# EAGLE library part DIP-BLACK-FEMALE-HEADER-VERT(2X15P-2.54) (library Seeed-OPL-Connector)
320030140
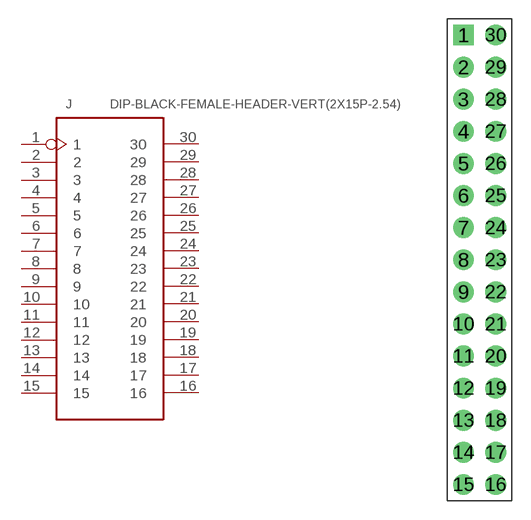
[diagram p135: symbol with the pads of H2X15-2.54; footprint H2X15-2.54]

Designator prefix J

## DIP-BLACK-FEMALE-HEADER-VERT(2X15P-2.54) (MPN: F185-1230A0BSYA1; VALUE: 2x15p-2.54)  [H2X15-2.54]
1  1
2  2
3  3
4  4
5  5
6  6
7  7
8  8
9  9
10  10
11  11
12  12
13  13
14  14
15  15
16  16
17  17
18  18
19  19
20  20
21  21
22  22
23  23
24  24
25  25
26  26
27  27
28  28
29  29
30  30

## Footprint H2X15-2.54 (pad centres in mm)
drill 0.889 pad 1.651 square: 1 -1.27,17.78
drill 0.889 pad 1.651: 2 -1.27,15.24; 3 -1.27,12.7; 4 -1.27,10.16; 5 -1.27,7.62; 6 -1.27,5.08; 7 -1.27,2.54; 8 -1.27,0; 9 -1.27,-2.54; 10 -1.27,-5.08; 11 -1.27,-7.62; 12 -1.27,-10.16; 13 -1.27,-12.7; 14 -1.27,-15.24; 15 -1.27,-17.78; 16 1.27,-17.78; 17 1.27,-15.24; 18 1.27,-12.7; 19 1.27,-10.16; 20 1.27,-7.62; 21 1.27,-5.08; 22 1.27,-2.54; 23 1.27,0; 24 1.27,2.54; 25 1.27,5.08; 26 1.27,7.62; 27 1.27,10.16; 28 1.27,12.7; 29 1.27,15.24; 30 1.27,17.78